# Altium integrated library Analog Devices Amplifiers and Linear Voltage References.IntLib: 547 symbols (part 7 of 20)
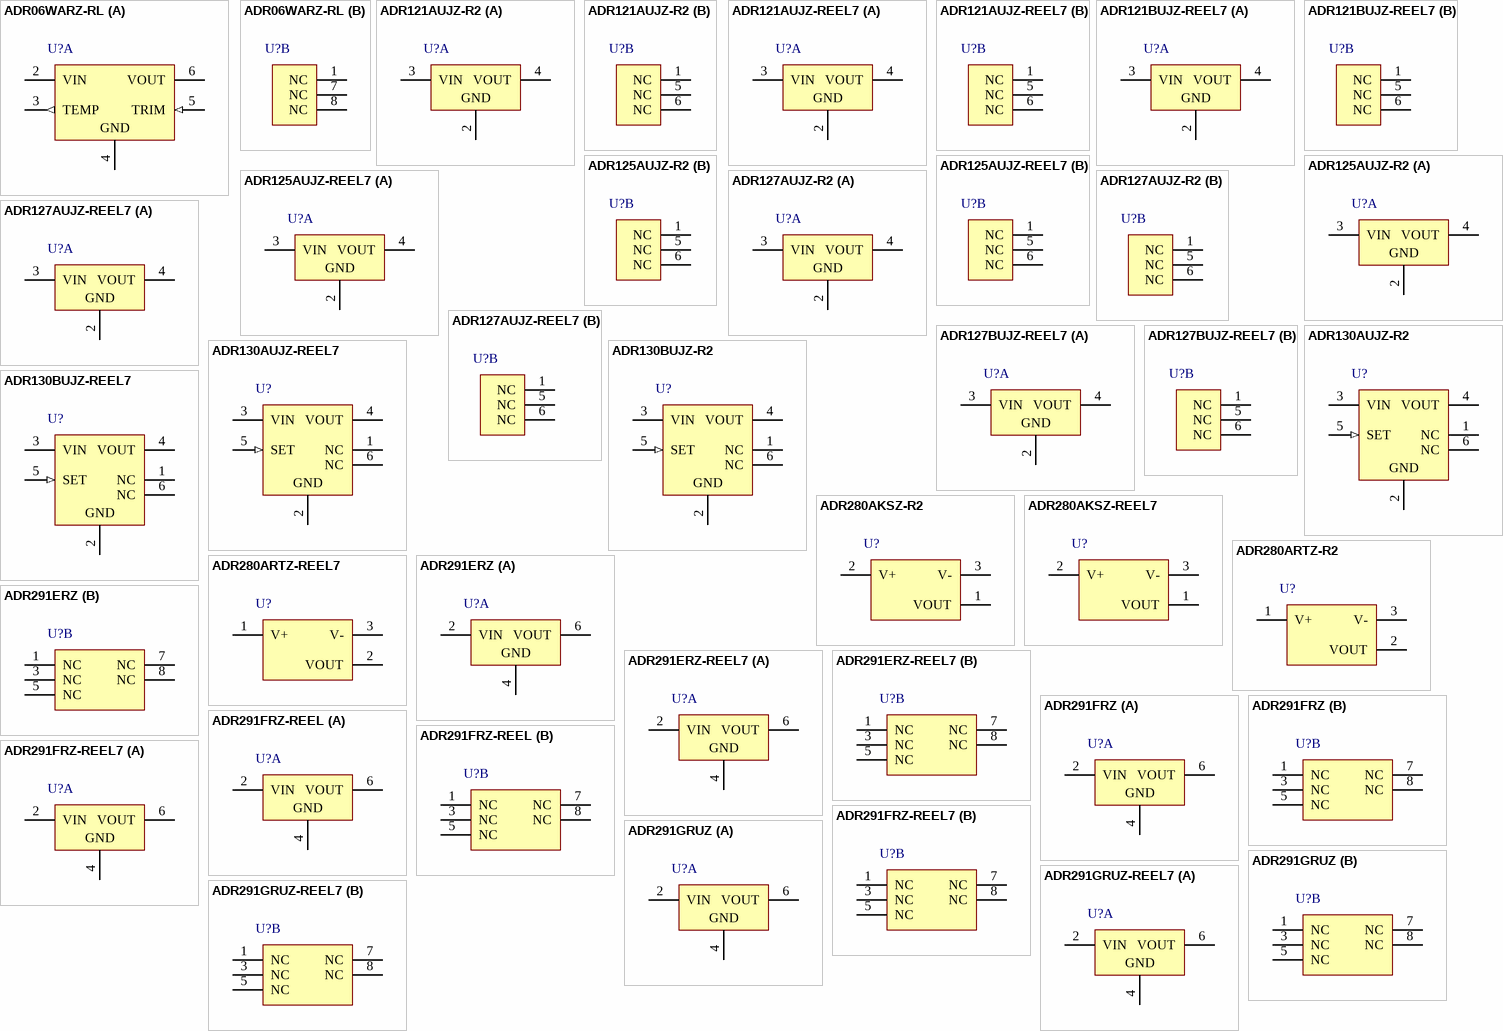
[diagram p26: symbols ADR06WARZ-RL to ADR291GRUZ-REEL7]

## ADR280AKSZ-REEL7
designator U?
Ultralow Power High PSRR Voltage Reference, 1.2 V Output, 2.4 to 5.5 V Supply, Industrial, 3-pin SOT23 (KS-3), Reel; Manufacturer: Analog Devices; PartNumber: ADR280AKSZ-REEL7; Max V Supply (V): 5.5; Min V Supply (V): 2.4; Ref Out TC (ppm/C): 10; Vout: 1.2V; DatasheetVersion: Rev. C; PackageVersion: 072809-A, 07/2009; PackageReference: KS-3; PackageDescription: 3-Pin Thin Shrink Small Outline Transistor Package, Body 2 x 1.25 mm, Pitch 0.65 mm; Supplier 1: Digi-Key; Supplier Part Number 1: ADR280AKSZ-REEL7TR-ND; Supplier 2: Digi-Key; Supplier Part Number 2: ADR280AKSZ-REEL7CT-ND; Supplier 3: Digi-Key; Supplier Part Number 3: ADR280AKSZ-REEL7DKR-ND; Supplier 4: Farnell; Supplier Part Number 4: 2312907; Supplier 5: Mouser; Supplier Part Number 5: 584-ADR280AKSZ-R7; Packing: Reel; Operating Temp Range: -40 to 85 degC; Mounting Technology: Surface Mount; ComponentLink1Description: Manufacturer URL; ComponentLink1URL: http://www.analog.com/en/index.html; ComponentLink2Description: Datasheet; ComponentLink2URL: http://www.analog.com/static/imported-files/data_sheets/ADR280.pdf; ComponentLink3Description: Package Specification; ComponentLink3URL: http:/www.analog.com/static/imported-files/packages/PKG_PDF/SC70(KS)/KS_3.pdf; ComponentLink4Description: URL Link1; ComponentLink4URL: Product URL:http://www.analog.com/en/special-linear-functions/voltage-references/adr280/products/product.html
footprint ADI-KS-3_N (SOT23, 3-Leads, Body 2x1.25mm, Pitch 0.65mm, IPC Medium Density)
footprint ADI-KS-3_L (SOT23, 3-Leads, Body 2x1.25mm, Pitch 0.65mm, IPC High Density)
footprint ADI-KS-3_M (SOT23, 3-Leads, Body 2x1.25mm, Pitch 0.65mm, IPC Low Density)
pins: 1 VOUT (power), 2 V+ (power), 3 V- (power)

## ADR280ARTZ-R2
designator U?
Ultralow Power High PSRR Voltage Reference, 1.2 V Output, 2.4 to 5.5 V Supply, Industrial, 3-pin SOT23 (RT-3), Reel; Manufacturer: Analog Devices; PartNumber: ADR280ARTZ-R2; Max V Supply (V): 5.5; Min V Supply (V): 2.4; Ref Out TC (ppm/C): 10; Vout: 1.2V; DatasheetVersion: Rev. C; PackageVersion: 011909-C, 02/2009; PackageReference: RT-3; PackageDescription: 3-Pin Small Outline Transistor Package, Body 2.9 x 1.3 mm, Pitch 0.96 mm; Supplier 1: Digi-Key; Supplier Part Number 1: ADR280ARTZ-R2TR-ND; Supplier 2: Digi-Key; Supplier Part Number 2: ADR280ARTZ-R2CT-ND; Supplier 3: Digi-Key; Supplier Part Number 3: ADR280ARTZ-R2DKR-ND; Supplier 4: Farnell; Supplier Part Number 4: 2074897; Supplier 5: Mouser; Supplier Part Number 5: 584-ADR280ARTZ-R2; Packing: Reel; Operating Temp Range: -40 to 85 degC; Mounting Technology: Surface Mount; Code_JEDEC: TO-236-AB; ComponentLink1Description: Manufacturer URL; ComponentLink1URL: http://www.analog.com/en/index.html; ComponentLink2Description: Datasheet; ComponentLink2URL: http://www.analog.com/static/imported-files/data_sheets/ADR280.pdf; ComponentLink3Description: Package Specification; ComponentLink3URL: http:/www.analog.com/static/imported-files/packages/PKG_PDF/SOT-23-3 (RT)/RT_3.pdf; ComponentLink4Description: URL Link1; ComponentLink4URL: Product URL:http://www.analog.com/en/special-linear-functions/voltage-references/adr280/products/product.html
footprint ADI-RT-3_N (SOT23, 3-Leads, Body 2.9x1.3mm, Pitch 0.96mm, IPC Medium Density)
footprint ADI-RT-3_L (SOT23, 3-Leads, Body 2.9x1.3mm, Pitch 0.96mm, IPC High Density)
footprint ADI-RT-3_M (SOT23, 3-Leads, Body 2.9x1.3mm, Pitch 0.96mm, IPC Low Density)
pins: 1 V+ (power), 2 VOUT (power), 3 V- (power)

## ADR280ARTZ-REEL7
designator U?
Ultralow Power High PSRR Voltage Reference, 1.2 V Output, 2.4 to 5.5 V Supply, Industrial, 3-pin SOT23 (RT-3), Reel; Manufacturer: Analog Devices; PartNumber: ADR280ARTZ-REEL7; Max V Supply (V): 5.5; Min V Supply (V): 2.4; Ref Out TC (ppm/C): 10; Vout: 1.2V; DatasheetVersion: Rev. C; PackageVersion: 011909-C, 02/2009; PackageReference: RT-3; PackageDescription: 3-Pin Small Outline Transistor Package, Body 2.9 x 1.3 mm, Pitch 0.96 mm; Supplier 1: Digi-Key; Supplier Part Number 1: ADR280ARTZ-REEL7TR-ND; Supplier 2: Digi-Key; Supplier Part Number 2: ADR280ARTZ-REEL7CT-ND; Supplier 3: Digi-Key; Supplier Part Number 3: ADR280ARTZ-REEL7DKR-ND; Supplier 4: Farnell; Supplier Part Number 4: 2312908; Supplier 5: Mouser; Supplier Part Number 5: 584-ADR280ARTZ-R7; Packing: Reel; Operating Temp Range: -40 to 85 degC; Mounting Technology: Surface Mount; Code_JEDEC: TO-236-AB; ComponentLink1Description: Manufacturer URL; ComponentLink1URL: http://www.analog.com/en/index.html; ComponentLink2Description: Datasheet; ComponentLink2URL: http://www.analog.com/static/imported-files/data_sheets/ADR280.pdf; ComponentLink3Description: Package Specification; ComponentLink3URL: http:/www.analog.com/static/imported-files/packages/PKG_PDF/SOT-23-3 (RT)/RT_3.pdf; ComponentLink4Description: URL Link1; ComponentLink4URL: Product URL:http://www.analog.com/en/special-linear-functions/voltage-references/adr280/products/product.html
footprint ADI-RT-3_N (SOT23, 3-Leads, Body 2.9x1.3mm, Pitch 0.96mm, IPC Medium Density)
footprint ADI-RT-3_L (SOT23, 3-Leads, Body 2.9x1.3mm, Pitch 0.96mm, IPC High Density)
footprint ADI-RT-3_M (SOT23, 3-Leads, Body 2.9x1.3mm, Pitch 0.96mm, IPC Low Density)
pins: 1 V+ (power), 2 VOUT (power), 3 V- (power)

## ADR291ERZ
designator U?
Low Noise Micropower Precision Voltage Reference, 2.5 V Output, 2.8 to 15 V Supply, Industrial, 8-pin SOIC (R-8), Tube; Manufacturer: Analog Devices; PartNumber: ADR291ERZ; Automotive Qualified: Yes; Max V Supply (V): 15; Min V Supply (V): 2.8; Ref Out TC (ppm/C): 3; Vout: 2.5V; DatasheetVersion: Rev. F; PackageVersion: 060506-A, 06/2006; PackageReference: R-8; PackageDescription: 8-Pin Standard Small Outline Package, Body 4.9 x 3.9 mm, Pitch 1.27 mm; Supplier 1: Digi-Key; Supplier Part Number 1: ADR291ERZ-ND; Supplier 2: Farnell; Supplier Part Number 2: 2305773; Supplier 3: Mouser; Supplier Part Number 3: 584-ADR291ERZ; Packing: Tube; Operating Temp Range: -40 to 125 degC; Mounting Technology: Surface Mount; Code_JEDEC: MS-012-AA; ComponentLink1Description: Manufacturer URL; ComponentLink1URL: http://www.analog.com/en/index.html; ComponentLink2Description: Datasheet; ComponentLink2URL: http://www.analog.com/static/imported-files/data_sheets/ADR291_292.pdf; ComponentLink3Description: Package Specification; ComponentLink3URL: http://www.analog.com/static/imported-files/packages/PKG_PDF/SOIC_Narrow%20(R)/R_8.pdf; ComponentLink4Description: URL Link1; ComponentLink4URL: Product URL:http://www.analog.com/en/special-linear-functions/voltage-references/adr291/products/product.html
footprint ADI-R-8_N (SOIC, 8-Leads, Body 4.9x3.9mm, Pitch 1.27mm, IPC Medium Density)
footprint ADI-R-8_L (SOIC, 8-Leads, Body 4.9x3.9mm, Pitch 1.27mm, IPC High Density)
footprint ADI-R-8_M (SOIC, 8-Leads, Body 4.9x3.9mm, Pitch 1.27mm, IPC Low Density)
part A pins: 2 VIN (power), 4 GND (power), 6 VOUT (power)
part B pins: 1 NC, 3 NC, 5 NC, 7 NC, 8 NC

## ADR291ERZ-REEL7
designator U?
Low Noise Micropower Precision Voltage Reference, 2.5 V Output, 2.8 to 15 V Supply, Industrial, 8-pin SOIC (R-8), Reel; Manufacturer: Analog Devices; PartNumber: ADR291ERZ-REEL7; Automotive Qualified: Yes; Max V Supply (V): 15; Min V Supply (V): 2.8; Ref Out TC (ppm/C): 3; Vout: 2.5V; DatasheetVersion: Rev. F; PackageVersion: 060506-A, 06/2006; PackageReference: R-8; PackageDescription: 8-Pin Standard Small Outline Package, Body 4.9 x 3.9 mm, Pitch 1.27 mm; Supplier 1: Digi-Key; Supplier Part Number 1: ADR291ERZ-REEL7-ND; Supplier 2: Mouser; Supplier Part Number 2: 584-ADR291ERZ-R7; Packing: Reel; Operating Temp Range: -40 to 125 degC; Mounting Technology: Surface Mount; Code_JEDEC: MS-012-AA; ComponentLink1Description: Manufacturer URL; ComponentLink1URL: http://www.analog.com/en/index.html; ComponentLink2Description: Datasheet; ComponentLink2URL: http://www.analog.com/static/imported-files/data_sheets/ADR291_292.pdf; ComponentLink3Description: Package Specification; ComponentLink3URL: http://www.analog.com/static/imported-files/packages/PKG_PDF/SOIC_Narrow%20(R)/R_8.pdf; ComponentLink4Description: URL Link1; ComponentLink4URL: Product URL:http://www.analog.com/en/special-linear-functions/voltage-references/adr291/products/product.html
footprint ADI-R-8_N (SOIC, 8-Leads, Body 4.9x3.9mm, Pitch 1.27mm, IPC Medium Density)
footprint ADI-R-8_L (SOIC, 8-Leads, Body 4.9x3.9mm, Pitch 1.27mm, IPC High Density)
footprint ADI-R-8_M (SOIC, 8-Leads, Body 4.9x3.9mm, Pitch 1.27mm, IPC Low Density)
part A pins: 2 VIN (power), 4 GND (power), 6 VOUT (power)
part B pins: 1 NC, 3 NC, 5 NC, 7 NC, 8 NC

## ADR291FRZ
designator U?
Low Noise Micropower Precision Voltage Reference, 2.5 V Output, 2.8 to 15 V Supply, Industrial, 8-pin SOIC (R-8), Tube; Manufacturer: Analog Devices; PartNumber: ADR291FRZ; Automotive Qualified: Yes; Max V Supply (V): 15; Min V Supply (V): 2.8; Ref Out TC (ppm/C): 5; Vout: 2.5V; DatasheetVersion: Rev. F; PackageVersion: 060506-A, 06/2006; PackageReference: R-8; PackageDescription: 8-Pin Standard Small Outline Package, Body 4.9 x 3.9 mm, Pitch 1.27 mm; Supplier 1: Digi-Key; Supplier Part Number 1: ADR291FRZ-ND; Supplier 2: Farnell; Supplier Part Number 2: 2305774; Supplier 3: Mouser; Supplier Part Number 3: 584-ADR291FRZ; Packing: Tube; Operating Temp Range: -40 to 125 degC; Mounting Technology: Surface Mount; Code_JEDEC: MS-012-AA; ComponentLink1Description: Manufacturer URL; ComponentLink1URL: http://www.analog.com/en/index.html; ComponentLink2Description: Datasheet; ComponentLink2URL: http://www.analog.com/static/imported-files/data_sheets/ADR291_292.pdf; ComponentLink3Description: Package Specification; ComponentLink3URL: http://www.analog.com/static/imported-files/packages/PKG_PDF/SOIC_Narrow%20(R)/R_8.pdf; ComponentLink4Description: URL Link1; ComponentLink4URL: Product URL:http://www.analog.com/en/special-linear-functions/voltage-references/adr291/products/product.html
footprint ADI-R-8_N (SOIC, 8-Leads, Body 4.9x3.9mm, Pitch 1.27mm, IPC Medium Density)
footprint ADI-R-8_L (SOIC, 8-Leads, Body 4.9x3.9mm, Pitch 1.27mm, IPC High Density)
footprint ADI-R-8_M (SOIC, 8-Leads, Body 4.9x3.9mm, Pitch 1.27mm, IPC Low Density)
part A pins: 2 VIN (power), 4 GND (power), 6 VOUT (power)
part B pins: 1 NC, 3 NC, 5 NC, 7 NC, 8 NC

## ADR291FRZ-REEL
designator U?
Low Noise Micropower Precision Voltage Reference, 2.5 V Output, 2.8 to 15 V Supply, Industrial, 8-pin SOIC (R-8), Reel; Manufacturer: Analog Devices; PartNumber: ADR291FRZ-REEL; Automotive Qualified: Yes; Max V Supply (V): 15; Min V Supply (V): 2.8; Ref Out TC (ppm/C): 5; Vout: 2.5V; DatasheetVersion: Rev. F; PackageVersion: 060506-A, 06/2006; PackageReference: R-8; PackageDescription: 8-Pin Standard Small Outline Package, Body 4.9 x 3.9 mm, Pitch 1.27 mm; Supplier 1: Digi-Key; Supplier Part Number 1: ADR291FRZ-REEL-ND; Supplier 2: Mouser; Supplier Part Number 2: 584-ADR291FRZ-R; Packing: Reel; Operating Temp Range: -40 to 125 degC; Mounting Technology: Surface Mount; Code_JEDEC: MS-012-AA; ComponentLink1Description: Manufacturer URL; ComponentLink1URL: http://www.analog.com/en/index.html; ComponentLink2Description: Datasheet; ComponentLink2URL: http://www.analog.com/static/imported-files/data_sheets/ADR291_292.pdf; ComponentLink3Description: Package Specification; ComponentLink3URL: http://www.analog.com/static/imported-files/packages/PKG_PDF/SOIC_Narrow%20(R)/R_8.pdf; ComponentLink4Description: URL Link1; ComponentLink4URL: Product URL:http://www.analog.com/en/special-linear-functions/voltage-references/adr291/products/product.html
footprint ADI-R-8_N (SOIC, 8-Leads, Body 4.9x3.9mm, Pitch 1.27mm, IPC Medium Density)
footprint ADI-R-8_L (SOIC, 8-Leads, Body 4.9x3.9mm, Pitch 1.27mm, IPC High Density)
footprint ADI-R-8_M (SOIC, 8-Leads, Body 4.9x3.9mm, Pitch 1.27mm, IPC Low Density)
part A pins: 2 VIN (power), 4 GND (power), 6 VOUT (power)
part B pins: 1 NC, 3 NC, 5 NC, 7 NC, 8 NC

## ADR291FRZ-REEL7
designator U?
Low Noise Micropower Precision Voltage Reference, 2.5 V Output, 2.8 to 15 V Supply, Industrial, 8-pin SOIC (R-8), Reel; Manufacturer: Analog Devices; PartNumber: ADR291FRZ-REEL7; Automotive Qualified: Yes; Max V Supply (V): 15; Min V Supply (V): 2.8; Ref Out TC (ppm/C): 5; Vout: 2.5V; DatasheetVersion: Rev. F; PackageVersion: 060506-A, 06/2006; PackageReference: R-8; PackageDescription: 8-Pin Standard Small Outline Package, Body 4.9 x 3.9 mm, Pitch 1.27 mm; Supplier 1: Digi-Key; Supplier Part Number 1: ADR291FRZ-REEL7TR-ND; Supplier 2: Digi-Key; Supplier Part Number 2: ADR291FRZ-REEL7CT-ND; Supplier 3: Digi-Key; Supplier Part Number 3: ADR291FRZ-REEL7DKR-ND; Supplier 4: Mouser; Supplier Part Number 4: 584-ADR291FRZ-R7; Packing: Reel; Operating Temp Range: -40 to 125 degC; Mounting Technology: Surface Mount; Code_JEDEC: MS-012-AA; ComponentLink1Description: Manufacturer URL; ComponentLink1URL: http://www.analog.com/en/index.html; ComponentLink2Description: Datasheet; ComponentLink2URL: http://www.analog.com/static/imported-files/data_sheets/ADR291_292.pdf; ComponentLink3Description: Package Specification; ComponentLink3URL: http://www.analog.com/static/imported-files/packages/PKG_PDF/SOIC_Narrow%20(R)/R_8.pdf; ComponentLink4Description: URL Link1; ComponentLink4URL: Product URL:http://www.analog.com/en/special-linear-functions/voltage-references/adr291/products/product.html
footprint ADI-R-8_N (SOIC, 8-Leads, Body 4.9x3.9mm, Pitch 1.27mm, IPC Medium Density)
footprint ADI-R-8_L (SOIC, 8-Leads, Body 4.9x3.9mm, Pitch 1.27mm, IPC High Density)
footprint ADI-R-8_M (SOIC, 8-Leads, Body 4.9x3.9mm, Pitch 1.27mm, IPC Low Density)
part A pins: 2 VIN (power), 4 GND (power), 6 VOUT (power)
part B pins: 1 NC, 3 NC, 5 NC, 7 NC, 8 NC

## ADR291GRUZ
designator U?
Low Noise Micropower Precision Voltage Reference, 2.5 V Output, 2.8 to 15 V Supply, Industrial, 8-pin SOP (RU-8), Tube; Manufacturer: Analog Devices; PartNumber: ADR291GRUZ; Automotive Qualified: Yes; Max V Supply (V): 15; Min V Supply (V): 2.8; Ref Out TC (ppm/C): 10; Vout: 2.5V; DatasheetVersion: Rev. F; PackageVersion: Jan-03; PackageReference: RU-8; PackageDescription: 8-Pin Thin Shrink Small Outline Package, Body 3 x 4.4 mm, Pitch 0.65 mm; Supplier 1: Digi-Key; Supplier Part Number 1: ADR291GRUZ-ND; Supplier 2: Mouser; Supplier Part Number 2: 584-ADR291GRUZ; Packing: Tube; Operating Temp Range: -40 to 125 degC; Mounting Technology: Surface Mount; Code_JEDEC: MO-153AA; ComponentLink1Description: Manufacturer URL; ComponentLink1URL: http://www.analog.com/en/index.html; ComponentLink2Description: Datasheet; ComponentLink2URL: http://www.analog.com/static/imported-files/data_sheets/ADR291_292.pdf; ComponentLink3Description: Package Specification; ComponentLink3URL: http://www.analog.com/static/imported-files/packages/359224089841708504863856053953356548880RU08.pdf; ComponentLink4Description: URL Link1; ComponentLink4URL: Product URL:http://www.analog.com/en/special-linear-functions/voltage-references/adr291/products/product.html
footprint ADI-RU-8_N (SOP, 8-Leads, Body 4.4x3mm, Pitch 0.65mm, IPC Medium Density)
footprint ADI-RU-8_L (SOP, 8-Leads, Body 4.4x3mm, Pitch 0.65mm, IPC High Density)
footprint ADI-RU-8_M (SOP, 8-Leads, Body 4.4x3mm, Pitch 0.65mm, IPC Low Density)
part A pins: 2 VIN (power), 4 GND (power), 6 VOUT (power)
part B pins: 1 NC, 3 NC, 5 NC, 7 NC, 8 NC

## ADR291GRUZ-REEL7
designator U?
Low Noise Micropower Precision Voltage Reference, 2.5 V Output, 2.8 to 15 V Supply, Industrial, 8-pin SOP (RU-8), Reel; Manufacturer: Analog Devices; PartNumber: ADR291GRUZ-REEL7; Automotive Qualified: Yes; Max V Supply (V): 15; Min V Supply (V): 2.8; Ref Out TC (ppm/C): 10; Vout: 2.5V; DatasheetVersion: Rev. F; PackageVersion: Jan-03; PackageReference: RU-8; PackageDescription: 8-Pin Thin Shrink Small Outline Package, Body 3 x 4.4 mm, Pitch 0.65 mm; Supplier 1: Digi-Key; Supplier Part Number 1: ADR291GRUZ-REEL7TR-ND; Supplier 2: Digi-Key; Supplier Part Number 2: ADR291GRUZ-REEL7CT-ND; Supplier 3: Digi-Key; Supplier Part Number 3: ADR291GRUZ-REEL7DKR-ND; Supplier 4: Mouser; Supplier Part Number 4: 584-ADR291GRUZ-R7; Packing: Reel; Operating Temp Range: -40 to 125 degC; Mounting Technology: Surface Mount; Code_JEDEC: MO-153AA; ComponentLink1Description: Manufacturer URL; ComponentLink1URL: http://www.analog.com/en/index.html; ComponentLink2Description: Datasheet; ComponentLink2URL: http://www.analog.com/static/imported-files/data_sheets/ADR291_292.pdf; ComponentLink3Description: Package Specification; ComponentLink3URL: http://www.analog.com/static/imported-files/packages/359224089841708504863856053953356548880RU08.pdf; ComponentLink4Description: URL Link1; ComponentLink4URL: Product URL:http://www.analog.com/en/special-linear-functions/voltage-references/adr291/products/product.html
footprint ADI-RU-8_N (SOP, 8-Leads, Body 4.4x3mm, Pitch 0.65mm, IPC Medium Density)
footprint ADI-RU-8_L (SOP, 8-Leads, Body 4.4x3mm, Pitch 0.65mm, IPC High Density)
footprint ADI-RU-8_M (SOP, 8-Leads, Body 4.4x3mm, Pitch 0.65mm, IPC Low Density)
part A pins: 2 VIN (power), 4 GND (power), 6 VOUT (power)
part B pins: 1 NC, 3 NC, 5 NC, 7 NC, 8 NC

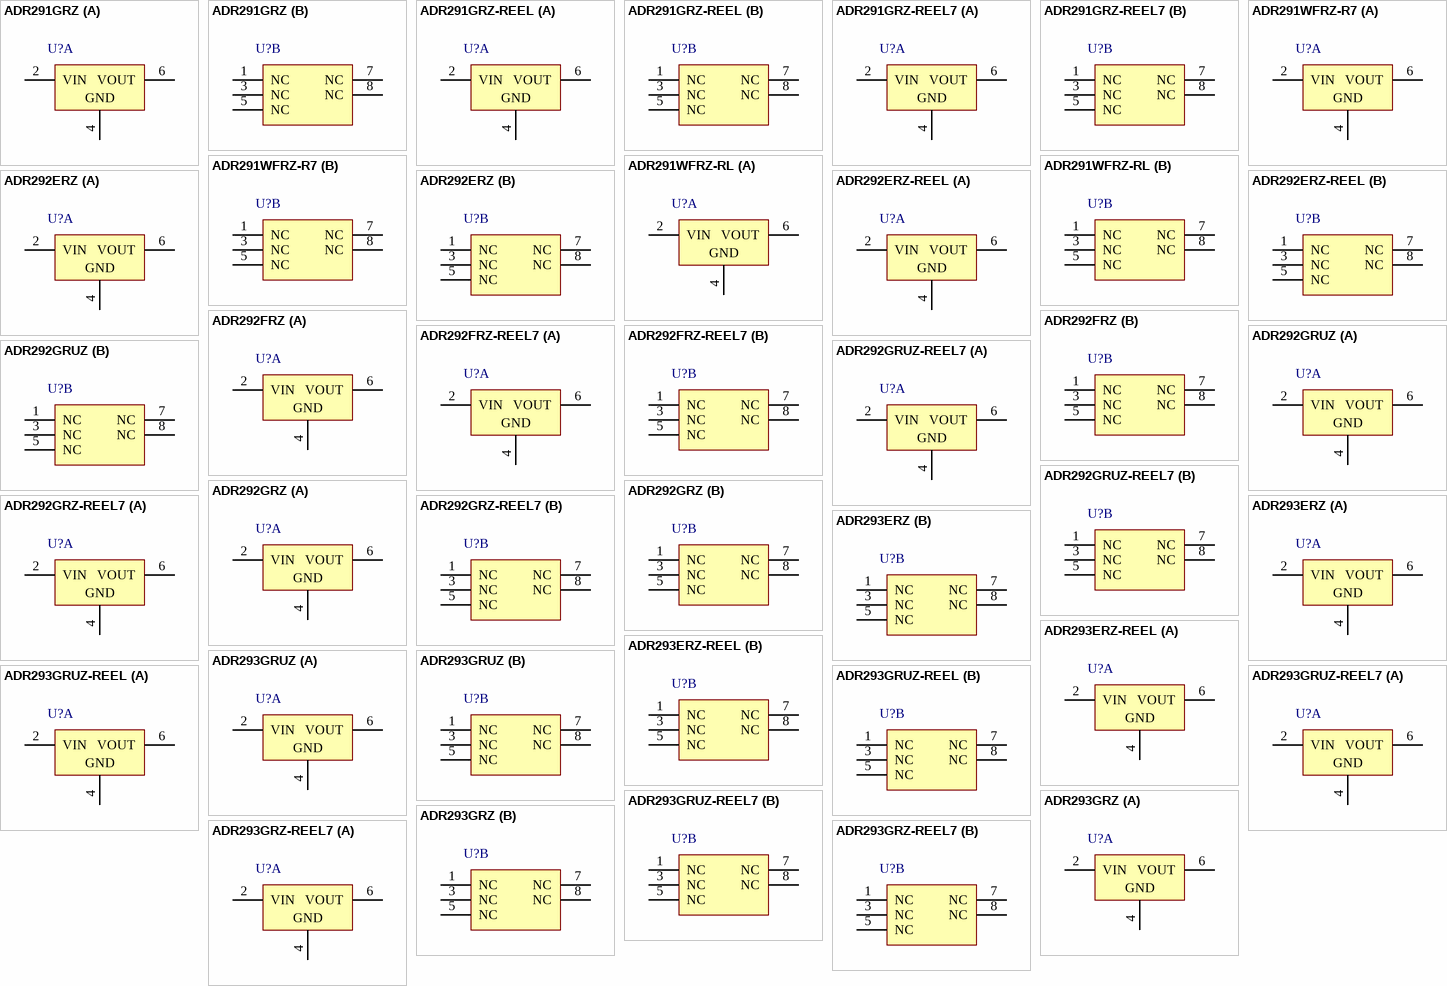
[diagram p7: symbols ADR291GRZ to ADR293GRZ-REEL7]

## ADR291GRZ
designator U?
Low Noise Micropower Precision Voltage Reference, 2.5 V Output, 2.8 to 15 V Supply, Industrial, 8-pin SOIC (R-8), Tube; Manufacturer: Analog Devices; PartNumber: ADR291GRZ; Automotive Qualified: Yes; Max V Supply (V): 15; Min V Supply (V): 2.8; Ref Out TC (ppm/C): 10; Vout: 2.5V; DatasheetVersion: Rev. F; PackageVersion: 060506-A, 06/2006; PackageReference: R-8; PackageDescription: 8-Pin Standard Small Outline Package, Body 4.9 x 3.9 mm, Pitch 1.27 mm; Supplier 1: Digi-Key; Supplier Part Number 1: ADR291GRZ-ND; Supplier 2: Farnell; Supplier Part Number 2: 2305775; Supplier 3: Mouser; Supplier Part Number 3: 584-ADR291GRZ; Packing: Tube; Operating Temp Range: -40 to 125 degC; Mounting Technology: Surface Mount; Code_JEDEC: MS-012-AA; ComponentLink1Description: Manufacturer URL; ComponentLink1URL: http://www.analog.com/en/index.html; ComponentLink2Description: Datasheet; ComponentLink2URL: http://www.analog.com/static/imported-files/data_sheets/ADR291_292.pdf; ComponentLink3Description: Package Specification; ComponentLink3URL: http://www.analog.com/static/imported-files/packages/PKG_PDF/SOIC_Narrow%20(R)/R_8.pdf; ComponentLink4Description: URL Link1; ComponentLink4URL: Product URL:http://www.analog.com/en/special-linear-functions/voltage-references/adr291/products/product.html
footprint ADI-R-8_N (SOIC, 8-Leads, Body 4.9x3.9mm, Pitch 1.27mm, IPC Medium Density)
footprint ADI-R-8_L (SOIC, 8-Leads, Body 4.9x3.9mm, Pitch 1.27mm, IPC High Density)
footprint ADI-R-8_M (SOIC, 8-Leads, Body 4.9x3.9mm, Pitch 1.27mm, IPC Low Density)
part A pins: 2 VIN (power), 4 GND (power), 6 VOUT (power)
part B pins: 1 NC, 3 NC, 5 NC, 7 NC, 8 NC

## ADR291GRZ-REEL
designator U?
Low Noise Micropower Precision Voltage Reference, 2.5 V Output, 2.8 to 15 V Supply, Industrial, 8-pin SOIC (R-8), Reel; Manufacturer: Analog Devices; PartNumber: ADR291GRZ-REEL; Automotive Qualified: Yes; Max V Supply (V): 15; Min V Supply (V): 2.8; Ref Out TC (ppm/C): 10; Vout: 2.5V; DatasheetVersion: Rev. F; PackageVersion: 060506-A, 06/2006; PackageReference: R-8; PackageDescription: 8-Pin Standard Small Outline Package, Body 4.9 x 3.9 mm, Pitch 1.27 mm; Supplier 1: Digi-Key; Supplier Part Number 1: ADR291GRZ-REEL-ND; Supplier 2: Mouser; Supplier Part Number 2: 584-ADR291GRZ-R; Packing: Reel; Operating Temp Range: -40 to 125 degC; Mounting Technology: Surface Mount; Code_JEDEC: MS-012-AA; ComponentLink1Description: Manufacturer URL; ComponentLink1URL: http://www.analog.com/en/index.html; ComponentLink2Description: Datasheet; ComponentLink2URL: http://www.analog.com/static/imported-files/data_sheets/ADR291_292.pdf; ComponentLink3Description: Package Specification; ComponentLink3URL: http://www.analog.com/static/imported-files/packages/PKG_PDF/SOIC_Narrow%20(R)/R_8.pdf; ComponentLink4Description: URL Link1; ComponentLink4URL: Product URL:http://www.analog.com/en/special-linear-functions/voltage-references/adr291/products/product.html
footprint ADI-R-8_N (SOIC, 8-Leads, Body 4.9x3.9mm, Pitch 1.27mm, IPC Medium Density)
footprint ADI-R-8_L (SOIC, 8-Leads, Body 4.9x3.9mm, Pitch 1.27mm, IPC High Density)
footprint ADI-R-8_M (SOIC, 8-Leads, Body 4.9x3.9mm, Pitch 1.27mm, IPC Low Density)
part A pins: 2 VIN (power), 4 GND (power), 6 VOUT (power)
part B pins: 1 NC, 3 NC, 5 NC, 7 NC, 8 NC

## ADR291GRZ-REEL7
designator U?
Low Noise Micropower Precision Voltage Reference, 2.5 V Output, 2.8 to 15 V Supply, Industrial, 8-pin SOIC (R-8), Reel; Manufacturer: Analog Devices; PartNumber: ADR291GRZ-REEL7; Automotive Qualified: Yes; Max V Supply (V): 15; Min V Supply (V): 2.8; Ref Out TC (ppm/C): 10; Vout: 2.5V; DatasheetVersion: Rev. F; PackageVersion: 060506-A, 06/2006; PackageReference: R-8; PackageDescription: 8-Pin Standard Small Outline Package, Body 4.9 x 3.9 mm, Pitch 1.27 mm; Supplier 1: Digi-Key; Supplier Part Number 1: ADR291GRZ-REEL7TR-ND; Supplier 2: Digi-Key; Supplier Part Number 2: ADR291GRZ-REEL7CT-ND; Supplier 3: Digi-Key; Supplier Part Number 3: ADR291GRZ-REEL7DKR-ND; Supplier 4: Mouser; Supplier Part Number 4: 584-ADR291GRZ-R7; Packing: Reel; Operating Temp Range: -40 to 125 degC; Mounting Technology: Surface Mount; Code_JEDEC: MS-012-AA; ComponentLink1Description: Manufacturer URL; ComponentLink1URL: http://www.analog.com/en/index.html; ComponentLink2Description: Datasheet; ComponentLink2URL: http://www.analog.com/static/imported-files/data_sheets/ADR291_292.pdf; ComponentLink3Description: Package Specification; ComponentLink3URL: http://www.analog.com/static/imported-files/packages/PKG_PDF/SOIC_Narrow%20(R)/R_8.pdf; ComponentLink4Description: URL Link1; ComponentLink4URL: Product URL:http://www.analog.com/en/special-linear-functions/voltage-references/adr291/products/product.html
footprint ADI-R-8_N (SOIC, 8-Leads, Body 4.9x3.9mm, Pitch 1.27mm, IPC Medium Density)
footprint ADI-R-8_L (SOIC, 8-Leads, Body 4.9x3.9mm, Pitch 1.27mm, IPC High Density)
footprint ADI-R-8_M (SOIC, 8-Leads, Body 4.9x3.9mm, Pitch 1.27mm, IPC Low Density)
part A pins: 2 VIN (power), 4 GND (power), 6 VOUT (power)
part B pins: 1 NC, 3 NC, 5 NC, 7 NC, 8 NC

## ADR291WFRZ-R7
designator U?
Low Noise Micropower Precision Voltage Reference, 2.5 V Output, 2.8 to 15 V Supply, Automotive, 8-pin SOIC (R-8), Reel; Manufacturer: Analog Devices; PartNumber: ADR291WFRZ-R7; Automotive Qualified: Yes; Max V Supply (V): 15; Min V Supply (V): 2.8; Ref Out TC (ppm/C): 5; Vout: 2.5V; DatasheetVersion: Rev. F; PackageVersion: 060506-A, 06/2006; PackageReference: R-8; PackageDescription: 8-Pin Standard Small Outline Package, Body 4.9 x 3.9 mm, Pitch 1.27 mm; Supplier 1: Digi-Key; Supplier Part Number 1: ADR291WFRZ-R7TR-ND; Supplier 2: Digi-Key; Supplier Part Number 2: ADR291WFRZ-R7CT-ND; Supplier 3: Digi-Key; Supplier Part Number 3: ADR291WFRZ-R7DKR-ND; Supplier 4: Mouser; Supplier Part Number 4: 584-ADR291WFRZ-R7; Packing: Reel; Operating Temp Range: -40 to 125 degC; Mounting Technology: Surface Mount; Code_JEDEC: MS-012-AA; ComponentLink1Description: Manufacturer URL; ComponentLink1URL: http://www.analog.com/en/index.html; ComponentLink2Description: Datasheet; ComponentLink2URL: http://www.analog.com/static/imported-files/data_sheets/ADR291_292.pdf; ComponentLink3Description: Package Specification; ComponentLink3URL: http://www.analog.com/static/imported-files/packages/PKG_PDF/SOIC_Narrow%20(R)/R_8.pdf; ComponentLink4Description: URL Link1; ComponentLink4URL: Product URL:http://www.analog.com/en/special-linear-functions/voltage-references/adr291/products/product.html
footprint ADI-R-8_N (SOIC, 8-Leads, Body 4.9x3.9mm, Pitch 1.27mm, IPC Medium Density)
footprint ADI-R-8_L (SOIC, 8-Leads, Body 4.9x3.9mm, Pitch 1.27mm, IPC High Density)
footprint ADI-R-8_M (SOIC, 8-Leads, Body 4.9x3.9mm, Pitch 1.27mm, IPC Low Density)
part A pins: 2 VIN (power), 4 GND (power), 6 VOUT (power)
part B pins: 1 NC, 3 NC, 5 NC, 7 NC, 8 NC

## ADR291WFRZ-RL
designator U?
Low Noise Micropower Precision Voltage Reference, 2.5 V Output, 2.8 to 15 V Supply, Automotive, 8-pin SOIC (R-8), Reel; Manufacturer: Analog Devices; PartNumber: ADR291WFRZ-RL; Automotive Qualified: Yes; Max V Supply (V): 15; Min V Supply (V): 2.8; Ref Out TC (ppm/C): 5; Vout: 2.5V; DatasheetVersion: Rev. F; PackageVersion: 060506-A, 06/2006; PackageReference: R-8; PackageDescription: 8-Pin Standard Small Outline Package, Body 4.9 x 3.9 mm, Pitch 1.27 mm; Supplier 1: Digi-Key; Supplier Part Number 1: ADR291WFRZ-RLTR-ND; Supplier 2: Digi-Key; Supplier Part Number 2: ADR291WFRZ-RLCT-ND; Supplier 3: Digi-Key; Supplier Part Number 3: ADR291WFRZ-RLDKR-ND; Supplier 4: Mouser; Supplier Part Number 4: 584-ADR291WFRZ-R; Packing: Reel; Operating Temp Range: -40 to 125 degC; Mounting Technology: Surface Mount; Code_JEDEC: MS-012-AA; ComponentLink1Description: Manufacturer URL; ComponentLink1URL: http://www.analog.com/en/index.html; ComponentLink2Description: Datasheet; ComponentLink2URL: http://www.analog.com/static/imported-files/data_sheets/ADR291_292.pdf; ComponentLink3Description: Package Specification; ComponentLink3URL: http://www.analog.com/static/imported-files/packages/PKG_PDF/SOIC_Narrow%20(R)/R_8.pdf; ComponentLink4Description: URL Link1; ComponentLink4URL: Product URL:http://www.analog.com/en/special-linear-functions/voltage-references/adr291/products/product.html
footprint ADI-R-8_N (SOIC, 8-Leads, Body 4.9x3.9mm, Pitch 1.27mm, IPC Medium Density)
footprint ADI-R-8_L (SOIC, 8-Leads, Body 4.9x3.9mm, Pitch 1.27mm, IPC High Density)
footprint ADI-R-8_M (SOIC, 8-Leads, Body 4.9x3.9mm, Pitch 1.27mm, IPC Low Density)
part A pins: 2 VIN (power), 4 GND (power), 6 VOUT (power)
part B pins: 1 NC, 3 NC, 5 NC, 7 NC, 8 NC

## ADR292ERZ
designator U?
Low Noise Micropower Precision Voltage Reference, 4.096 V Output, 4.4 to 15 V Supply, Industrial, 8-pinSOIC (R-8), Tube; Manufacturer: Analog Devices; PartNumber: ADR292ERZ; Max V Supply (V): 15; Min V Supply (V): 4.4; Ref Out TC (ppm/C): 3; Vout: 4.096V; DatasheetVersion: Rev. F; PackageVersion: 060506-A, 06/2006; PackageReference: R-8; PackageDescription: 8-Pin Standard Small Outline Package, Body 4.9 x 3.9 mm, Pitch 1.27 mm; Supplier 1: Digi-Key; Supplier Part Number 1: ADR292ERZ-ND; Supplier 2: Farnell; Supplier Part Number 2: 2305776; Supplier 3: Mouser; Supplier Part Number 3: 584-ADR292ERZ; Packing: Tube; Operating Temp Range: -40 to 125 degC; Mounting Technology: Surface Mount; Code_JEDEC: MS-012-AA; ComponentLink1Description: Manufacturer URL; ComponentLink1URL: http://www.analog.com/en/index.html; ComponentLink2Description: Datasheet; ComponentLink2URL: http://www.analog.com/static/imported-files/data_sheets/ADR291_292.pdf; ComponentLink3Description: Package Specification; ComponentLink3URL: http://www.analog.com/static/imported-files/packages/PKG_PDF/SOIC_Narrow%20(R)/R_8.pdf; ComponentLink4Description: URL Link1; ComponentLink4URL: Product URL:http://www.analog.com/en/special-linear-functions/voltage-references/adr292/products/product.html
footprint ADI-R-8_N (SOIC, 8-Leads, Body 4.9x3.9mm, Pitch 1.27mm, IPC Medium Density)
footprint ADI-R-8_L (SOIC, 8-Leads, Body 4.9x3.9mm, Pitch 1.27mm, IPC High Density)
footprint ADI-R-8_M (SOIC, 8-Leads, Body 4.9x3.9mm, Pitch 1.27mm, IPC Low Density)
part A pins: 2 VIN (power), 4 GND (power), 6 VOUT (power)
part B pins: 1 NC, 3 NC, 5 NC, 7 NC, 8 NC

## ADR292ERZ-REEL
designator U?
Low Noise Micropower Precision Voltage Reference, 4.096 V Output, 4.4 to 15 V Supply, Industrial, 8-pinSOIC (R-8), Reel; Manufacturer: Analog Devices; PartNumber: ADR292ERZ-REEL; Max V Supply (V): 15; Min V Supply (V): 4.4; Ref Out TC (ppm/C): 3; Vout: 4.096V; DatasheetVersion: Rev. F; PackageVersion: 060506-A, 06/2006; PackageReference: R-8; PackageDescription: 8-Pin Standard Small Outline Package, Body 4.9 x 3.9 mm, Pitch 1.27 mm; Supplier 1: Digi-Key; Supplier Part Number 1: ADR292ERZ-REEL-ND; Supplier 2: Mouser; Supplier Part Number 2: 584-ADR292ERZ-R; Packing: Reel; Operating Temp Range: -40 to 125 degC; Mounting Technology: Surface Mount; Code_JEDEC: MS-012-AA; ComponentLink1Description: Manufacturer URL; ComponentLink1URL: http://www.analog.com/en/index.html; ComponentLink2Description: Datasheet; ComponentLink2URL: http://www.analog.com/static/imported-files/data_sheets/ADR291_292.pdf; ComponentLink3Description: Package Specification; ComponentLink3URL: http://www.analog.com/static/imported-files/packages/PKG_PDF/SOIC_Narrow%20(R)/R_8.pdf; ComponentLink4Description: URL Link1; ComponentLink4URL: Product URL:http://www.analog.com/en/special-linear-functions/voltage-references/adr292/products/product.html
footprint ADI-R-8_N (SOIC, 8-Leads, Body 4.9x3.9mm, Pitch 1.27mm, IPC Medium Density)
footprint ADI-R-8_L (SOIC, 8-Leads, Body 4.9x3.9mm, Pitch 1.27mm, IPC High Density)
footprint ADI-R-8_M (SOIC, 8-Leads, Body 4.9x3.9mm, Pitch 1.27mm, IPC Low Density)
part A pins: 2 VIN (power), 4 GND (power), 6 VOUT (power)
part B pins: 1 NC, 3 NC, 5 NC, 7 NC, 8 NC

## ADR292FRZ
designator U?
Low Noise Micropower Precision Voltage Reference, 4.096 V Output, 4.4 to 15 V Supply, Industrial, 8-pinSOIC (R-8), Tube; Manufacturer: Analog Devices; PartNumber: ADR292FRZ; Max V Supply (V): 15; Min V Supply (V): 4.4; Ref Out TC (ppm/C): 3; Vout: 4.096V; DatasheetVersion: Rev. F; PackageVersion: 060506-A, 06/2006; PackageReference: R-8; PackageDescription: 8-Pin Standard Small Outline Package, Body 4.9 x 3.9 mm, Pitch 1.27 mm; Supplier 1: Digi-Key; Supplier Part Number 1: ADR292FRZ-ND; Supplier 2: Mouser; Supplier Part Number 2: 584-ADR292FRZ; Packing: Tube; Operating Temp Range: -40 to 125 degC; Mounting Technology: Surface Mount; Code_JEDEC: MS-012-AA; ComponentLink1Description: Manufacturer URL; ComponentLink1URL: http://www.analog.com/en/index.html; ComponentLink2Description: Datasheet; ComponentLink2URL: http://www.analog.com/static/imported-files/data_sheets/ADR291_292.pdf; ComponentLink3Description: Package Specification; ComponentLink3URL: http://www.analog.com/static/imported-files/packages/PKG_PDF/SOIC_Narrow%20(R)/R_8.pdf; ComponentLink4Description: URL Link1; ComponentLink4URL: Product URL:http://www.analog.com/en/special-linear-functions/voltage-references/adr292/products/product.html
footprint ADI-R-8_N (SOIC, 8-Leads, Body 4.9x3.9mm, Pitch 1.27mm, IPC Medium Density)
footprint ADI-R-8_L (SOIC, 8-Leads, Body 4.9x3.9mm, Pitch 1.27mm, IPC High Density)
footprint ADI-R-8_M (SOIC, 8-Leads, Body 4.9x3.9mm, Pitch 1.27mm, IPC Low Density)
part A pins: 2 VIN (power), 4 GND (power), 6 VOUT (power)
part B pins: 1 NC, 3 NC, 5 NC, 7 NC, 8 NC

## ADR292FRZ-REEL7
designator U?
Low Noise Micropower Precision Voltage Reference, 4.096 V Output, 4.4 to 15 V Supply, Industrial, 8-pinSOIC (R-8), Reel; Manufacturer: Analog Devices; PartNumber: ADR292FRZ-REEL7; Max V Supply (V): 15; Min V Supply (V): 4.4; Ref Out TC (ppm/C): 5; Vout: 4.096V; DatasheetVersion: Rev. F; PackageVersion: 060506-A, 06/2006; PackageReference: R-8; PackageDescription: 8-Pin Standard Small Outline Package, Body 4.9 x 3.9 mm, Pitch 1.27 mm; Supplier 1: Digi-Key; Supplier Part Number 1: ADR292FRZ-REEL7TR-ND; Supplier 2: Digi-Key; Supplier Part Number 2: ADR292FRZ-REEL7CT-ND; Supplier 3: Digi-Key; Supplier Part Number 3: ADR292FRZ-REEL7DKR-ND; Supplier 4: Mouser; Supplier Part Number 4: 584-ADR292FRZ-R7; Packing: Reel; Operating Temp Range: -40 to 125 degC; Mounting Technology: Surface Mount; Code_JEDEC: MS-012-AA; ComponentLink1Description: Manufacturer URL; ComponentLink1URL: http://www.analog.com/en/index.html; ComponentLink2Description: Datasheet; ComponentLink2URL: http://www.analog.com/static/imported-files/data_sheets/ADR291_292.pdf; ComponentLink3Description: Package Specification; ComponentLink3URL: http://www.analog.com/static/imported-files/packages/PKG_PDF/SOIC_Narrow%20(R)/R_8.pdf; ComponentLink4Description: URL Link1; ComponentLink4URL: Product URL:http://www.analog.com/en/special-linear-functions/voltage-references/adr292/products/product.html
footprint ADI-R-8_N (SOIC, 8-Leads, Body 4.9x3.9mm, Pitch 1.27mm, IPC Medium Density)
footprint ADI-R-8_L (SOIC, 8-Leads, Body 4.9x3.9mm, Pitch 1.27mm, IPC High Density)
footprint ADI-R-8_M (SOIC, 8-Leads, Body 4.9x3.9mm, Pitch 1.27mm, IPC Low Density)
part A pins: 2 VIN (power), 4 GND (power), 6 VOUT (power)
part B pins: 1 NC, 3 NC, 5 NC, 7 NC, 8 NC

## ADR292GRUZ
designator U?
Low Noise Micropower Precision Voltage Reference, 4.096 V Output, 4.4 to 15 V Supply, Industrial, 8-pinSOP (RU-8), Tube; Manufacturer: Analog Devices; PartNumber: ADR292GRUZ; Max V Supply (V): 15; Min V Supply (V): 4.4; Ref Out TC (ppm/C): 5; Vout: 4.096V; DatasheetVersion: Rev. F; PackageVersion: Jan-03; PackageReference: RU-8; PackageDescription: 8-Pin Thin Shrink Small Outline Package, Body 3 x 4.4 mm, Pitch 0.65 mm; Supplier 1: Digi-Key; Supplier Part Number 1: ADR292GRUZ-ND; Supplier 2: Farnell; Supplier Part Number 2: 2312794; Supplier 3: Mouser; Supplier Part Number 3: 584-ADR292GRUZ; Packing: Tube; Operating Temp Range: -40 to 125 degC; Mounting Technology: Surface Mount; Code_JEDEC: MO-153AA; ComponentLink1Description: Manufacturer URL; ComponentLink1URL: http://www.analog.com/en/index.html; ComponentLink2Description: Datasheet; ComponentLink2URL: http://www.analog.com/static/imported-files/data_sheets/ADR291_292.pdf; ComponentLink3Description: Package Specification; ComponentLink3URL: http://www.analog.com/static/imported-files/packages/359224089841708504863856053953356548880RU08.pdf; ComponentLink4Description: URL Link1; ComponentLink4URL: Product URL:http://www.analog.com/en/special-linear-functions/voltage-references/adr292/products/product.html
footprint ADI-RU-8_N (SOP, 8-Leads, Body 4.4x3mm, Pitch 0.65mm, IPC Medium Density)
footprint ADI-RU-8_L (SOP, 8-Leads, Body 4.4x3mm, Pitch 0.65mm, IPC High Density)
footprint ADI-RU-8_M (SOP, 8-Leads, Body 4.4x3mm, Pitch 0.65mm, IPC Low Density)
part A pins: 2 VIN (power), 4 GND (power), 6 VOUT (power)
part B pins: 1 NC, 3 NC, 5 NC, 7 NC, 8 NC

## ADR292GRUZ-REEL7
designator U?
Low Noise Micropower Precision Voltage Reference, 4.096 V Output, 4.4 to 15 V Supply, Industrial, 8-pinSOP (RU-8), Reel; Manufacturer: Analog Devices; PartNumber: ADR292GRUZ-REEL7; Max V Supply (V): 15; Min V Supply (V): 4.4; Ref Out TC (ppm/C): 10; Vout: 4.096V; DatasheetVersion: Rev. F; PackageVersion: Jan-03; PackageReference: RU-8; PackageDescription: 8-Pin Thin Shrink Small Outline Package, Body 3 x 4.4 mm, Pitch 0.65 mm; Supplier 1: Digi-Key; Supplier Part Number 1: ADR292GRUZ-REEL7-ND; Supplier 2: Mouser; Supplier Part Number 2: 584-ADR292GRUZ-R7; Packing: Reel; Operating Temp Range: -40 to 125 degC; Mounting Technology: Surface Mount; Code_JEDEC: MO-153AA; ComponentLink1Description: Manufacturer URL; ComponentLink1URL: http://www.analog.com/en/index.html; ComponentLink2Description: Datasheet; ComponentLink2URL: http://www.analog.com/static/imported-files/data_sheets/ADR291_292.pdf; ComponentLink3Description: Package Specification; ComponentLink3URL: http://www.analog.com/static/imported-files/packages/359224089841708504863856053953356548880RU08.pdf; ComponentLink4Description: URL Link1; ComponentLink4URL: Product URL:http://www.analog.com/en/special-linear-functions/voltage-references/adr292/products/product.html
footprint ADI-RU-8_N (SOP, 8-Leads, Body 4.4x3mm, Pitch 0.65mm, IPC Medium Density)
footprint ADI-RU-8_L (SOP, 8-Leads, Body 4.4x3mm, Pitch 0.65mm, IPC High Density)
footprint ADI-RU-8_M (SOP, 8-Leads, Body 4.4x3mm, Pitch 0.65mm, IPC Low Density)
part A pins: 2 VIN (power), 4 GND (power), 6 VOUT (power)
part B pins: 1 NC, 3 NC, 5 NC, 7 NC, 8 NC

## ADR292GRZ
designator U?
Low Noise Micropower Precision Voltage Reference, 4.096 V Output, 4.4 to 15 V Supply, Industrial, 8-pinSOIC (R-8), Tube; Manufacturer: Analog Devices; PartNumber: ADR292GRZ; Max V Supply (V): 15; Min V Supply (V): 4.4; Ref Out TC (ppm/C): 10; Vout: 4.096V; DatasheetVersion: Rev. F; PackageVersion: 060506-A, 06/2006; PackageReference: R-8; PackageDescription: 8-Pin Standard Small Outline Package, Body 4.9 x 3.9 mm, Pitch 1.27 mm; Supplier 1: Digi-Key; Supplier Part Number 1: ADR292GRZ-ND; Supplier 2: Mouser; Supplier Part Number 2: 584-ADR292GRZ; Packing: Tube; Operating Temp Range: -40 to 125 degC; Mounting Technology: Surface Mount; Code_JEDEC: MS-012-AA; ComponentLink1Description: Manufacturer URL; ComponentLink1URL: http://www.analog.com/en/index.html; ComponentLink2Description: Datasheet; ComponentLink2URL: http://www.analog.com/static/imported-files/data_sheets/ADR291_292.pdf; ComponentLink3Description: Package Specification; ComponentLink3URL: http://www.analog.com/static/imported-files/packages/PKG_PDF/SOIC_Narrow%20(R)/R_8.pdf; ComponentLink4Description: URL Link1; ComponentLink4URL: Product URL:http://www.analog.com/en/special-linear-functions/voltage-references/adr292/products/product.html
footprint ADI-R-8_N (SOIC, 8-Leads, Body 4.9x3.9mm, Pitch 1.27mm, IPC Medium Density)
footprint ADI-R-8_L (SOIC, 8-Leads, Body 4.9x3.9mm, Pitch 1.27mm, IPC High Density)
footprint ADI-R-8_M (SOIC, 8-Leads, Body 4.9x3.9mm, Pitch 1.27mm, IPC Low Density)
part A pins: 2 VIN (power), 4 GND (power), 6 VOUT (power)
part B pins: 1 NC, 3 NC, 5 NC, 7 NC, 8 NC

## ADR292GRZ-REEL7
designator U?
Low Noise Micropower Precision Voltage Reference, 4.096 V Output, 4.4 to 15 V Supply, Industrial, 8-pinSOIC (R-8), Reel; Manufacturer: Analog Devices; PartNumber: ADR292GRZ-REEL7; Max V Supply (V): 15; Min V Supply (V): 4.4; Ref Out TC (ppm/C): 10; Vout: 4.096V; DatasheetVersion: Rev. F; PackageVersion: 060506-A, 06/2006; PackageReference: R-8; PackageDescription: 8-Pin Standard Small Outline Package, Body 4.9 x 3.9 mm, Pitch 1.27 mm; Supplier 1: Digi-Key; Supplier Part Number 1: ADR292GRZ-REEL7-ND; Supplier 2: Mouser; Supplier Part Number 2: 584-ADR292GRZ-R7; Packing: Reel; Operating Temp Range: -40 to 125 degC; Mounting Technology: Surface Mount; Code_JEDEC: MS-012-AA; ComponentLink1Description: Manufacturer URL; ComponentLink1URL: http://www.analog.com/en/index.html; ComponentLink2Description: Datasheet; ComponentLink2URL: http://www.analog.com/static/imported-files/data_sheets/ADR291_292.pdf; ComponentLink3Description: Package Specification; ComponentLink3URL: http://www.analog.com/static/imported-files/packages/PKG_PDF/SOIC_Narrow%20(R)/R_8.pdf; ComponentLink4Description: URL Link1; ComponentLink4URL: Product URL:http://www.analog.com/en/special-linear-functions/voltage-references/adr292/products/product.html
footprint ADI-R-8_N (SOIC, 8-Leads, Body 4.9x3.9mm, Pitch 1.27mm, IPC Medium Density)
footprint ADI-R-8_L (SOIC, 8-Leads, Body 4.9x3.9mm, Pitch 1.27mm, IPC High Density)
footprint ADI-R-8_M (SOIC, 8-Leads, Body 4.9x3.9mm, Pitch 1.27mm, IPC Low Density)
part A pins: 2 VIN (power), 4 GND (power), 6 VOUT (power)
part B pins: 1 NC, 3 NC, 5 NC, 7 NC, 8 NC

## ADR293ERZ
designator U?
Low Noise, Micropower Precision Voltage Reference, 5 V Output, 6 to 15 V Supply, Industrial, 8-pin SOIC (R-8), Tube; Manufacturer: Analog Devices; PartNumber: ADR293ERZ; Max V Supply (V): 15; Min V Supply (V): 6; Ref Out TC (ppm/C): 3; Vout: 5; DatasheetVersion: Rev. D; PackageVersion: 060506-A, 06/2006; PackageReference: R-8; PackageDescription: 8-Pin Standard Small Outline Package, Body 4.9 x 3.9 mm, Pitch 1.27 mm; Supplier 1: Digi-Key; Supplier Part Number 1: ADR293ERZ-ND; Supplier 2: Mouser; Supplier Part Number 2: 584-ADR293ERZ; Packing: Tube; Operating Temp Range: -40 to 125 degC; Mounting Technology: Surface Mount; Code_JEDEC: MS-012-AA; ComponentLink1Description: Manufacturer URL; ComponentLink1URL: http://www.analog.com/en/index.html; ComponentLink2Description: Datasheet; ComponentLink2URL: http://www.analog.com/static/imported-files/data_sheets/ADR293.pdf; ComponentLink3Description: Package Specification; ComponentLink3URL: http://www.analog.com/static/imported-files/packages/PKG_PDF/SOIC_Narrow%20(R)/R_8.pdf; ComponentLink4Description: URL Link1; ComponentLink4URL: Product URL:http://www.analog.com/en/special-linear-functions/voltage-references/adr293/products/product.html
footprint ADI-R-8_N (SOIC, 8-Leads, Body 4.9x3.9mm, Pitch 1.27mm, IPC Medium Density)
footprint ADI-R-8_L (SOIC, 8-Leads, Body 4.9x3.9mm, Pitch 1.27mm, IPC High Density)
footprint ADI-R-8_M (SOIC, 8-Leads, Body 4.9x3.9mm, Pitch 1.27mm, IPC Low Density)
part A pins: 2 VIN (power), 4 GND (power), 6 VOUT (power)
part B pins: 1 NC, 3 NC, 5 NC, 7 NC, 8 NC

## ADR293ERZ-REEL
designator U?
Low Noise, Micropower Precision Voltage Reference, 5 V Output, 6 to 15 V Supply, Industrial, 8-pin SOIC (R-8), Reel; Manufacturer: Analog Devices; PartNumber: ADR293ERZ-REEL; Max V Supply (V): 15; Min V Supply (V): 6; Ref Out TC (ppm/C): 3; Vout: 5; DatasheetVersion: Rev. D; PackageVersion: 060506-A, 06/2006; PackageReference: R-8; PackageDescription: 8-Pin Standard Small Outline Package, Body 4.9 x 3.9 mm, Pitch 1.27 mm; Supplier 1: Digi-Key; Supplier Part Number 1: ADR293ERZ-REEL-ND; Supplier 2: Mouser; Supplier Part Number 2: 584-ADR293ERZ-R; Packing: Reel; Operating Temp Range: -40 to 125 degC; Mounting Technology: Surface Mount; Code_JEDEC: MS-012-AA; ComponentLink1Description: Manufacturer URL; ComponentLink1URL: http://www.analog.com/en/index.html; ComponentLink2Description: Datasheet; ComponentLink2URL: http://www.analog.com/static/imported-files/data_sheets/ADR293.pdf; ComponentLink3Description: Package Specification; ComponentLink3URL: http://www.analog.com/static/imported-files/packages/PKG_PDF/SOIC_Narrow%20(R)/R_8.pdf; ComponentLink4Description: URL Link1; ComponentLink4URL: Product URL:http://www.analog.com/en/special-linear-functions/voltage-references/adr293/products/product.html
footprint ADI-R-8_N (SOIC, 8-Leads, Body 4.9x3.9mm, Pitch 1.27mm, IPC Medium Density)
footprint ADI-R-8_L (SOIC, 8-Leads, Body 4.9x3.9mm, Pitch 1.27mm, IPC High Density)
footprint ADI-R-8_M (SOIC, 8-Leads, Body 4.9x3.9mm, Pitch 1.27mm, IPC Low Density)
part A pins: 2 VIN (power), 4 GND (power), 6 VOUT (power)
part B pins: 1 NC, 3 NC, 5 NC, 7 NC, 8 NC

## ADR293GRUZ
designator U?
Low Noise, Micropower Precision Voltage Reference, 5 V Output, 6 to 15 V Supply, Industrial, 8-pin SOP (RU-8), Tube; Manufacturer: Analog Devices; PartNumber: ADR293GRUZ; Max V Supply (V): 15; Min V Supply (V): 6; Ref Out TC (ppm/C): 10; Vout: 5; DatasheetVersion: Rev. D; PackageVersion: Jan-03; PackageReference: RU-8; PackageDescription: 8-Pin Thin Shrink Small Outline Package, Body 3 x 4.4 mm, Pitch 0.65 mm; Supplier 1: Digi-Key; Supplier Part Number 1: ADR293GRUZ-ND; Supplier 2: Mouser; Supplier Part Number 2: 584-ADR293GRUZ; Packing: Tube; Operating Temp Range: -40 to 125 degC; Mounting Technology: Surface Mount; Code_JEDEC: MO-153AA; ComponentLink1Description: Manufacturer URL; ComponentLink1URL: http://www.analog.com/en/index.html; ComponentLink2Description: Datasheet; ComponentLink2URL: http://www.analog.com/static/imported-files/data_sheets/ADR293.pdf; ComponentLink3Description: Package Specification; ComponentLink3URL: http://www.analog.com/static/imported-files/packages/359224089841708504863856053953356548880RU08.pdf; ComponentLink4Description: URL Link1; ComponentLink4URL: Product URL:http://www.analog.com/en/special-linear-functions/voltage-references/adr293/products/product.html
footprint ADI-RU-8_N (SOP, 8-Leads, Body 4.4x3mm, Pitch 0.65mm, IPC Medium Density)
footprint ADI-RU-8_L (SOP, 8-Leads, Body 4.4x3mm, Pitch 0.65mm, IPC High Density)
footprint ADI-RU-8_M (SOP, 8-Leads, Body 4.4x3mm, Pitch 0.65mm, IPC Low Density)
part A pins: 2 VIN (power), 4 GND (power), 6 VOUT (power)
part B pins: 1 NC, 3 NC, 5 NC, 7 NC, 8 NC

## ADR293GRUZ-REEL
designator U?
Low Noise, Micropower Precision Voltage Reference, 5 V Output, 6 to 15 V Supply, Industrial, 8-pin SOP (RU-8), Reel; Manufacturer: Analog Devices; PartNumber: ADR293GRUZ-REEL; Max V Supply (V): 15; Min V Supply (V): 6; Ref Out TC (ppm/C): 10; Vout: 5; DatasheetVersion: Rev. D; PackageVersion: Jan-03; PackageReference: RU-8; PackageDescription: 8-Pin Thin Shrink Small Outline Package, Body 3 x 4.4 mm, Pitch 0.65 mm; Supplier 1: Digi-Key; Supplier Part Number 1: ADR293GRUZ-REEL-ND; Supplier 2: Mouser; Supplier Part Number 2: 584-ADR293GRUZ-R; Packing: Reel; Operating Temp Range: -40 to 125 degC; Mounting Technology: Surface Mount; Code_JEDEC: MO-153AA; ComponentLink1Description: Manufacturer URL; ComponentLink1URL: http://www.analog.com/en/index.html; ComponentLink2Description: Datasheet; ComponentLink2URL: http://www.analog.com/static/imported-files/data_sheets/ADR293.pdf; ComponentLink3Description: Package Specification; ComponentLink3URL: http://www.analog.com/static/imported-files/packages/359224089841708504863856053953356548880RU08.pdf; ComponentLink4Description: URL Link1; ComponentLink4URL: Product URL:http://www.analog.com/en/special-linear-functions/voltage-references/adr293/products/product.html
footprint ADI-RU-8_N (SOP, 8-Leads, Body 4.4x3mm, Pitch 0.65mm, IPC Medium Density)
footprint ADI-RU-8_L (SOP, 8-Leads, Body 4.4x3mm, Pitch 0.65mm, IPC High Density)
footprint ADI-RU-8_M (SOP, 8-Leads, Body 4.4x3mm, Pitch 0.65mm, IPC Low Density)
part A pins: 2 VIN (power), 4 GND (power), 6 VOUT (power)
part B pins: 1 NC, 3 NC, 5 NC, 7 NC, 8 NC

## ADR293GRUZ-REEL7
designator U?
Low Noise, Micropower Precision Voltage Reference, 5 V Output, 6 to 15 V Supply, Industrial, 8-pin SOP (RU-8), Reel; Manufacturer: Analog Devices; PartNumber: ADR293GRUZ-REEL7; Max V Supply (V): 15; Min V Supply (V): 6; Ref Out TC (ppm/C): 10; Vout: 5; DatasheetVersion: Rev. D; PackageVersion: Jan-03; PackageReference: RU-8; PackageDescription: 8-Pin Thin Shrink Small Outline Package, Body 3 x 4.4 mm, Pitch 0.65 mm; Supplier 1: Digi-Key; Supplier Part Number 1: ADR293GRUZ-REEL7-ND; Supplier 2: Mouser; Supplier Part Number 2: 584-ADR293GRUZ-R7; Packing: Reel; Operating Temp Range: -40 to 125 degC; Mounting Technology: Surface Mount; Code_JEDEC: MO-153AA; ComponentLink1Description: Manufacturer URL; ComponentLink1URL: http://www.analog.com/en/index.html; ComponentLink2Description: Datasheet; ComponentLink2URL: http://www.analog.com/static/imported-files/data_sheets/ADR293.pdf; ComponentLink3Description: Package Specification; ComponentLink3URL: http://www.analog.com/static/imported-files/packages/359224089841708504863856053953356548880RU08.pdf; ComponentLink4Description: URL Link1; ComponentLink4URL: Product URL:http://www.analog.com/en/special-linear-functions/voltage-references/adr293/products/product.html
footprint ADI-RU-8_N (SOP, 8-Leads, Body 4.4x3mm, Pitch 0.65mm, IPC Medium Density)
footprint ADI-RU-8_L (SOP, 8-Leads, Body 4.4x3mm, Pitch 0.65mm, IPC High Density)
footprint ADI-RU-8_M (SOP, 8-Leads, Body 4.4x3mm, Pitch 0.65mm, IPC Low Density)
part A pins: 2 VIN (power), 4 GND (power), 6 VOUT (power)
part B pins: 1 NC, 3 NC, 5 NC, 7 NC, 8 NC

## ADR293GRZ
designator U?
Low Noise, Micropower Precision Voltage Reference, 5 V Output, 6 to 15 V Supply, Industrial, 8-pin SOIC (R-8), Tube; Manufacturer: Analog Devices; PartNumber: ADR293GRZ; Max V Supply (V): 15; Min V Supply (V): 6; Ref Out TC (ppm/C): 10; Vout: 5; DatasheetVersion: Rev. D; PackageVersion: 060506-A, 06/2006; PackageReference: R-8; PackageDescription: 8-Pin Standard Small Outline Package, Body 4.9 x 3.9 mm, Pitch 1.27 mm; Supplier 1: Digi-Key; Supplier Part Number 1: ADR293GRZ-ND; Supplier 2: Farnell; Supplier Part Number 2: 1424494; Supplier 3: Mouser; Supplier Part Number 3: 584-ADR293GRZ; Packing: Tube; Operating Temp Range: -40 to 125 degC; Mounting Technology: Surface Mount; Code_JEDEC: MS-012-AA; ComponentLink1Description: Manufacturer URL; ComponentLink1URL: http://www.analog.com/en/index.html; ComponentLink2Description: Datasheet; ComponentLink2URL: http://www.analog.com/static/imported-files/data_sheets/ADR293.pdf; ComponentLink3Description: Package Specification; ComponentLink3URL: http://www.analog.com/static/imported-files/packages/PKG_PDF/SOIC_Narrow%20(R)/R_8.pdf; ComponentLink4Description: URL Link1; ComponentLink4URL: Product URL:http://www.analog.com/en/special-linear-functions/voltage-references/adr293/products/product.html
footprint ADI-R-8_N (SOIC, 8-Leads, Body 4.9x3.9mm, Pitch 1.27mm, IPC Medium Density)
footprint ADI-R-8_L (SOIC, 8-Leads, Body 4.9x3.9mm, Pitch 1.27mm, IPC High Density)
footprint ADI-R-8_M (SOIC, 8-Leads, Body 4.9x3.9mm, Pitch 1.27mm, IPC Low Density)
part A pins: 2 VIN (power), 4 GND (power), 6 VOUT (power)
part B pins: 1 NC, 3 NC, 5 NC, 7 NC, 8 NC